# EAGLE library part CDCE913 (library dt-pll)
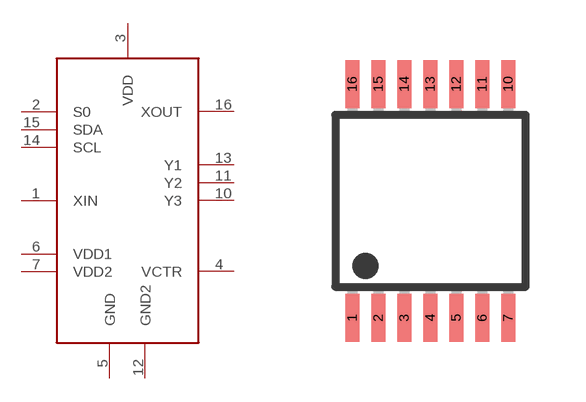
[diagram p0: symbol with the pads of TSSOP14; footprint TSSOP14]

Designator prefix U$1

## CDCE913  [TSSOP14]
1  XIN
2  S0
3  VDD
4  VCTR
5  GND
6  VDD1
7  VDD2
10  Y3
11  Y2
12  GND2
13  Y1
14  SCL
15  SDA
16  XOUT

## Footprint TSSOP14 (pad centres in mm)
smd 0.35 x 1.2: 1 -2.275,-2.925; 2 -1.625,-2.925; 3 -0.975,-2.925; 4 -0.325,-2.925; 5 0.325,-2.925; 6 0.975,-2.925; 7 1.625,-2.925; 10 1.625,2.925; 11 0.975,2.925; 12 0.325,2.925; 13 -0.325,2.925; 14 -0.975,2.925; 15 -1.625,2.925; 16 -2.275,2.925